# EAGLE library part ANTENNA-315MHZ_SMD (library MAAV)
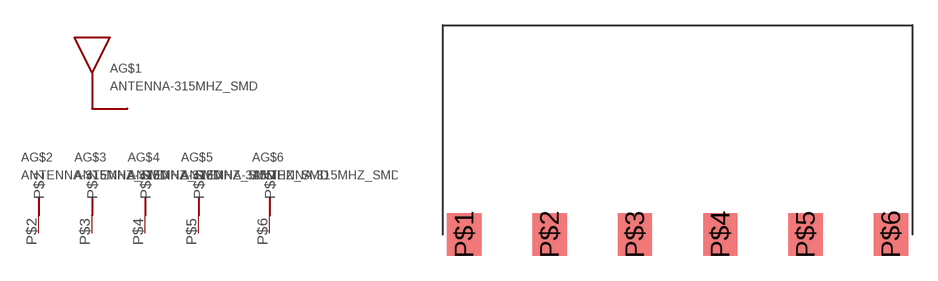
[diagram p8: symbol with the pads of ANTENNA-315MHZ_SMD; footprint ANTENNA-315MHZ_SMD]

Designator prefix A; gates G$1=ANTENNA G$2=GND G$3=GND G$4=GND G$5=GND G$6=GND

## ANTENNA-315MHZ_SMD (DIGIKEY: ANT-315-SP-ND)  [ANTENNA-315MHZ_SMD]
P$1  G$1:P$1
P$2  G$2:P$2
P$3  G$3:P$2
P$4  G$4:P$2
P$5  G$5:P$2
P$6  G$6:P$2

## Footprint ANTENNA-315MHZ_SMD (pad centres in mm)
smd 2.032 x 2.54: P$1 -12.7,0; P$2 -7.62,0; P$3 -2.54,0; P$4 2.54,0; P$5 7.62,0; P$6 12.7,0